# Altium integrated library TX-RX.IntLib: 1 symbol
Pins are listed as number, name and electrical type; pins without a type are passive.

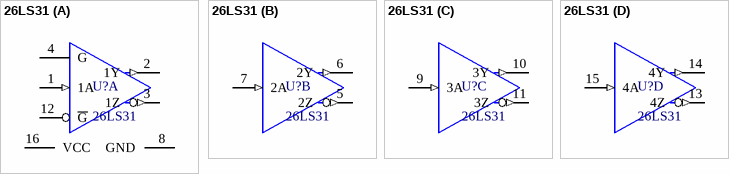
[diagram p0: symbol 26LS31]

## 26LS31
designator U?
AM26LS31 Quadruple Differential Line Driver, 16-SOIC; Supply Voltage: 4.75-5.25V; Type: Driver; Package: 16-SOIC; PackageDescription: 0.154" x 3.90mm wide; Family: Interface - Drivers, Receivers, Transceivers; Supplier 1: Newark; Supplier Part Number 1: 34K0704; Supplier 2: Mouser; Supplier Part Number 2: 595-AM26LS31CDR; Supplier 3: Digi-Key; Supplier Part Number 3: 296-1010-1-ND
footprint SOIC-16 (SOIC, 16-Leads, Body 9.9x3.9mm, Pitch 1.27mm, IPC Low Density)
part A pins: 1 1A (in), 2 1Y (out), 3 1Z (out), 4 G, 8 GND (power), 12 ~{G}, 16 VCC (power)
part B pins: 5 2Z (out), 6 2Y (out), 7 2A (in)
part C pins: 9 3A (in), 10 3Y (out), 11 3Z (out)
part D pins: 13 4Z (out), 14 4Y (out), 15 4A (in)